# Altium footprint library 3PinMolex.PcbLib: 1 footprints
Each footprint in its own frame and in the unit in brackets; x right, y up, seen from the top. Pads: shape width x height; smd on the part's side, far side on the other; paste and mask are expansions set on the pad; w line width, h text height; cw(c..) or ccw(c..) is an arc to the next point about the centre after c.
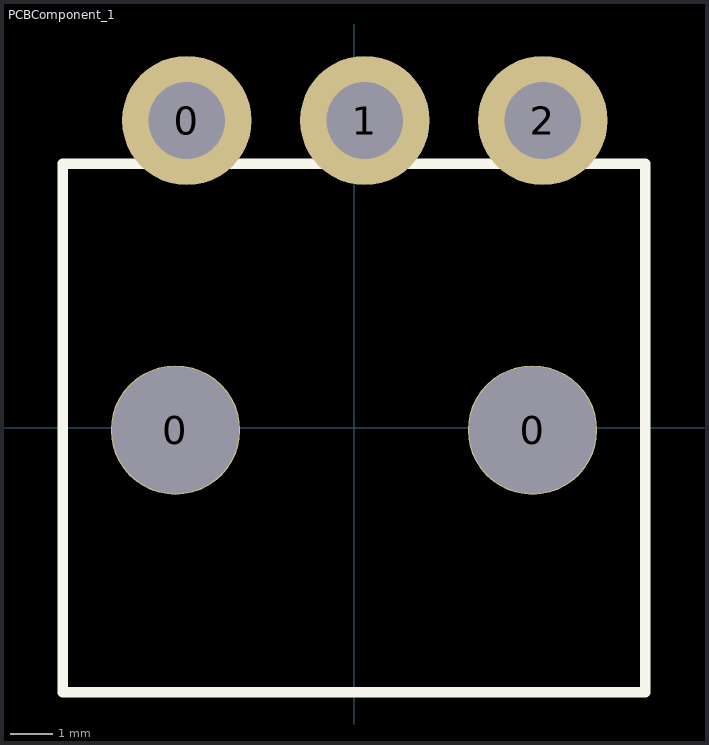
[diagram p0: the footprint, top view; thin cyan lines are the x and y axes]

## PCBComponent_1 [mil]
pads (5):
  round 120 hole 118: 0(-165.5,-2) 0(165.5,-2)
  round 120 hole 71: 0(-155,285) 1(10,285) 2(175,285)
Top Overlay:
  lines w10: -270,-245 270,-245 270,245 -270,245 -270,-245